# Altium schematic symbol library Transformers.SchLib: 2 symbols
Pins are listed as number, name and electrical type; pins without a type are passive.

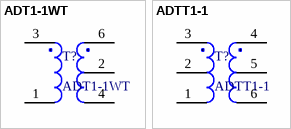
[diagram p0: symbols ADT1-1WT to ADTT1-1]

## ADT1-1WT
designator T?
RF transformer, 75Ohm, 0.4 to 800MHz.; Manufacturer: Mini-Circuits; Part number: ADT1-1WT
footprint ADT1-1WT (SOTFL, 6-Leads, Body 7.87x5.08mm, Pitch 2.54mm, IPC Medium Density)
pins: 1 PRI, 2 SEC CT, 3 PRI DOT, 4 SEC, 6 SEC DOT

## ADTT1-1
designator T?
RF transformer, 50Ω 0.3 to 300 MHz.; Manufacturer: Mini-Circuits; Part number: ADTT1-1
footprint ADT1-1WT (SOTFL, 6-Leads, Body 7.87x5.08mm, Pitch 2.54mm, IPC Medium Density)
pins: 1 PRI, 2 SEC CT, 3 PRI DOT, 4 SEC, 5 SEC CT, 6 SEC DOT